# Altium schematic symbol library Коммутаторы.SchLib: 2 symbols
Pins are listed as number, name and electrical type; pins without a type are passive.

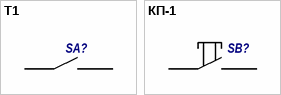
[diagram p0: symbols T1 to КП-1]

## T1
designator SA?  (value not drawn)
Value: {Value}
footprint Т1
pins: 1, 2

## КП-1
designator SB?  (value not drawn)
Value: {Value}
footprint Т1
pins: 1, 2